# Altium integrated library AD74416HBCPZ.IntLib: 1 symbol
Pins are listed as number, name and electrical type; pins without a type are passive.

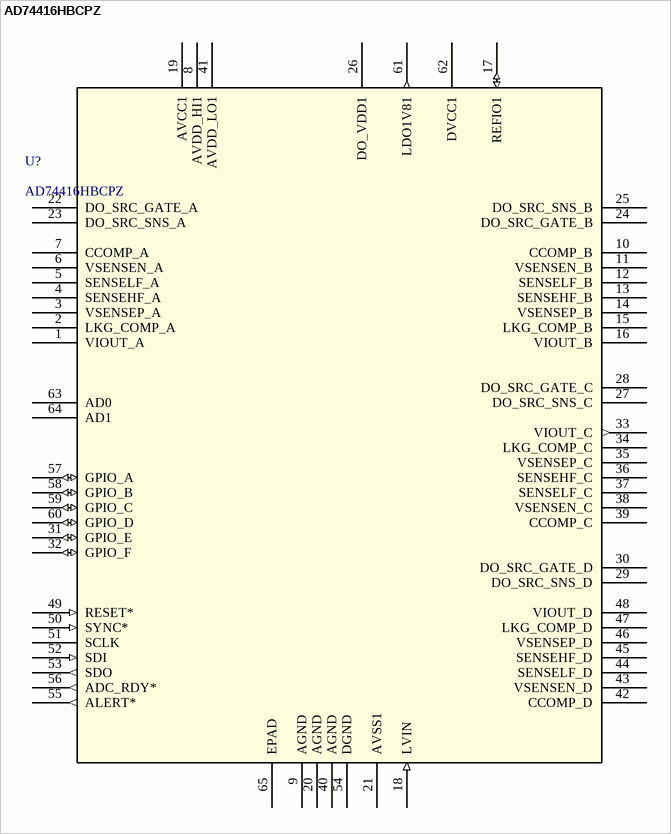
[diagram p0: symbol AD74416HBCPZ]

## AD74416HBCPZ
designator U?
Quad-Channel, Software Configurable Input and Output with HART Modem; Manufacturer_Name: Analog Devices Inc; Copyright: Copyright (C) 2025 Ultra Librarian. All rights reserved.; Manufacturer_Part_Number: AD74416HBCPZ; RefDes: RefDes; Type: Type
footprint CP-64-15_ADI
pins: 1 VIOUT_A (power), 2 LKG_COMP_A, 3 VSENSEP_A, 4 SENSEHF_A, 5 SENSELF_A, 6 VSENSEN_A, 7 CCOMP_A, 8 AVDD_HI1 (power), 9 AGND (power), 10 CCOMP_B, 11 VSENSEN_B, 12 SENSELF_B, 13 SENSEHF_B, 14 VSENSEP_B, 15 LKG_COMP_B, 16 VIOUT_B (power), 17 REFIO1 (io), 18 LVIN (in), 19 AVCC1 (power), 20 AGND (power), 21 AVSS1 (power), 22 DO_SRC_GATE_A, 23 DO_SRC_SNS_A, 24 DO_SRC_GATE_B, 25 DO_SRC_SNS_B, 26 DO_VDD1 (power), 27 DO_SRC_SNS_C, 28 DO_SRC_GATE_C, 29 DO_SRC_SNS_D, 30 DO_SRC_GATE_D, 31 GPIO_E (io), 32 GPIO_F (io), 33 VIOUT_C (out), 34 LKG_COMP_C, 35 VSENSEP_C, 36 SENSEHF_C, 37 SENSELF_C, 38 VSENSEN_C, 39 CCOMP_C, 40 AGND (power), 41 AVDD_LO1 (power), 42 CCOMP_D, 43 VSENSEN_D, 44 SENSELF_D, 45 SENSEHF_D, 46 VSENSEP_D, 47 LKG_COMP_D, 48 VIOUT_D (power), 49 RESET* (in), 50 SYNC* (in), 51 SCLK, 52 SDI (in), 53 SDO (out), 54 DGND (power), 55 ALERT* (out), 56 ADC_RDY* (out), 57 GPIO_A (io), 58 GPIO_B (io), 59 GPIO_C (io), 60 GPIO_D (io), 61 LDO1V81 (out), 62 DVCC1 (power), 63 AD0, 64 AD1, 65 EPAD (power)